# EAGLE library part NEO-7 (library u-blox)
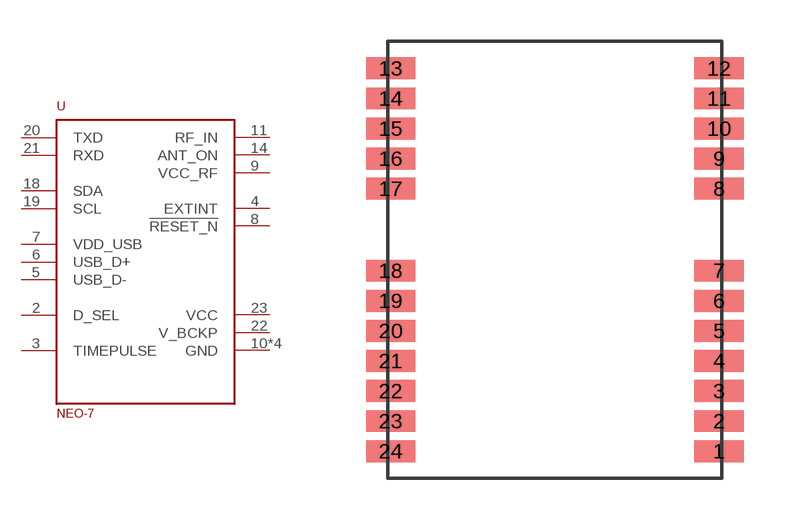
[diagram p1: symbol with the pads of NEO7; footprint NEO7]

Designator prefix U

## NEO-7  [NEO7]
2  D_SEL  in
3  TIMEPULSE  out
4  EXTINT  in
5  USB_D-
6  USB_D+
7  VDD_USB  in
8  !RESET_N  in
9  VCC_RF  out
10  GND  pwr
11  RF_IN  in
12  GND  pwr
13  GND  pwr
14  ANT_ON  out
18  SDA
19  SCL
20  TXD  out
21  RXD  in
22  V_BCKP  pwr
23  VCC  pwr
24  GND  pwr

## Footprint NEO7 (pad centres in mm)
smd 1.8 x 0.8: 1 6,-7; 2 6,-5.9; 3 6,-4.8; 4 6,-3.7; 5 6,-2.6; 6 6,-1.5; 7 6,-0.4; 8 6,2.6; 9 6,3.7; 10 6,4.8; 11 6,5.9; 12 6,7; 13 -6,7; 14 -6,5.9; 15 -6,4.8; 16 -6,3.7; 17 -6,2.6; 18 -6,-0.4; 19 -6,-1.5; 20 -6,-2.6; 21 -6,-3.7; 22 -6,-4.8; 23 -6,-5.9; 24 -6,-7